# Altium schematic symbol library kmilo17pet-Maxim_Sensors.SchLib: 1172 symbols (part 18 of 61)
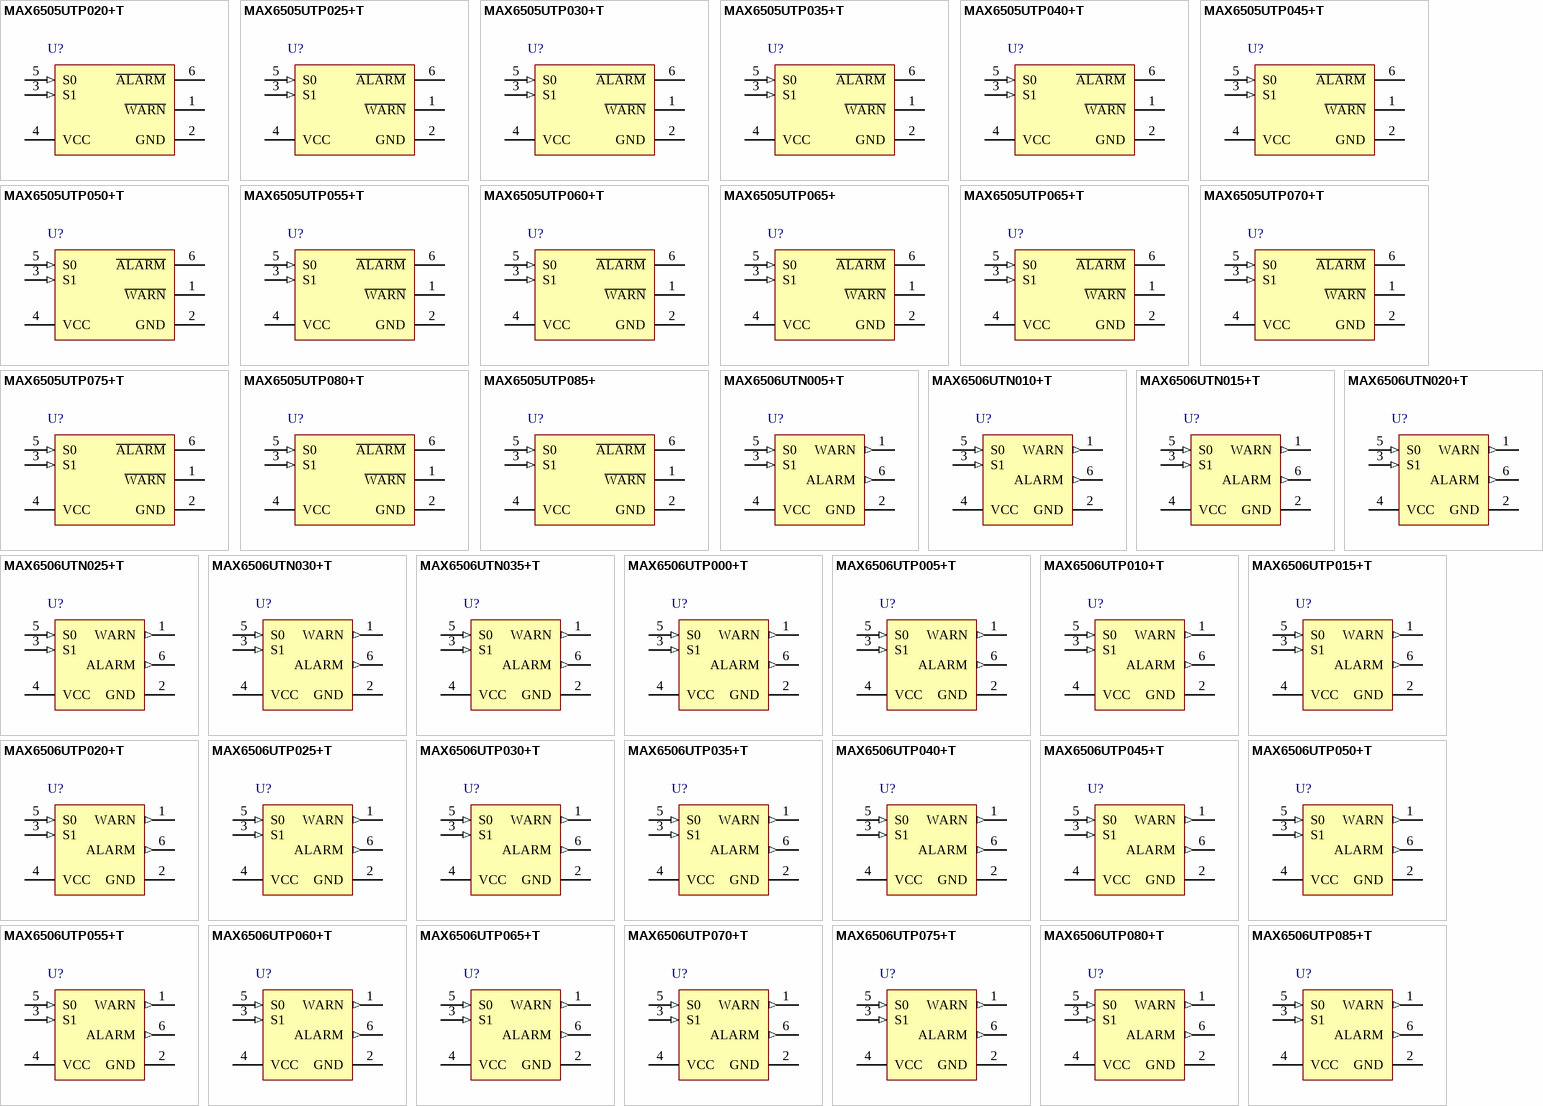
[diagram p50: symbols MAX6505UTP020+T to MAX6506UTP085+T]

## MAX6506UTN005+T
designator U?
Dual Trip Temperature Switch, -40 to 125 degC, 6-Pin SOT23 (U6SN+1), Pb-Free, Tape and Reel; Generic Part Number: MAX6506; PartNumber: MAX6506UTN005+T; Functions: Temperature Switch/Temperature Comparator; Interface: Logic; DatasheetVersion: Rev. 1; PackageVersion: Rev. N, 08/2012; PackageReference: U6SN+1; PackageDescription: 6-Pin Small-Outline Transistor Package, Body 1.625 x 2.9 mm, Pitch 0.95 mm; Packing: Tape and Reel; Mounting Technology: Surface Mount; Code_JEDEC: MO-178; ComponentLink1Description: Manufacturer URL; ComponentLink1URL: http://www.maximintegrated.com/; ComponentLink2Description: Datasheet; ComponentLink2URL: http://datasheets.maximintegrated.com/en/ds/MAX6505-MAX6508.pdf; ComponentLink3Description: Package Specification; ComponentLink3URL: http://pdfserv.maximintegrated.com/package_dwgs/21-0058.PDF
footprint MAXM-U6SN+1_N (SOT23, 6-Leads, Body 2.9x1.625mm, Pitch 0.95mm, IPC Medium Density)
footprint MAXM-U6SN+1_L (SOT23, 6-Leads, Body 2.9x1.625mm, Pitch 0.95mm, IPC High Density)
footprint MAXM-U6SN+1_M (SOT23, 6-Leads, Body 2.9x1.625mm, Pitch 0.95mm, IPC Low Density)
pins: 1 WARN (out) "Push-Pull Active-High Warning Output. WARN goes high when the die temperature exceeds TWARN = TALARM   - delta TAW", 2 GND (power) "Ground", 3 S1 (in) "Delta Temperature Select Input. Connect to VCC or GND to select the difference between TALARM and TWARN (Table 1 or see Electrical Characteristics).", 4 VCC (power) "Supply Voltage Input. Bypass VCC to GND with a 0.1uF ceramic capacitor.", 5 S0 (in) "Delta Temperature Select Input. Connect to VCC or GND to select the difference between TALARM and TWARN (Table 1 or see Electrical Characteristics).", 6 ALARM (out) "Push-Pull Active-High Alarm Output. ALARM goes high when the die temperature exceeds the factory-set value of TALARM"

## MAX6506UTN010+T
designator U?
Dual Trip Temperature Switch, -40 to 125 degC, 6-Pin SOT23 (U6SN+1), Pb-Free, Tape and Reel; Generic Part Number: MAX6506; PartNumber: MAX6506UTN010+T; Functions: Temperature Switch/Temperature Comparator; Interface: Logic; DatasheetVersion: Rev. 1; PackageVersion: Rev. N, 08/2012; PackageReference: U6SN+1; PackageDescription: 6-Pin Small-Outline Transistor Package, Body 1.625 x 2.9 mm, Pitch 0.95 mm; Packing: Tape and Reel; Mounting Technology: Surface Mount; Code_JEDEC: MO-178; ComponentLink1Description: Manufacturer URL; ComponentLink1URL: http://www.maximintegrated.com/; ComponentLink2Description: Datasheet; ComponentLink2URL: http://datasheets.maximintegrated.com/en/ds/MAX6505-MAX6508.pdf; ComponentLink3Description: Package Specification; ComponentLink3URL: http://pdfserv.maximintegrated.com/package_dwgs/21-0058.PDF
footprint MAXM-U6SN+1_N (SOT23, 6-Leads, Body 2.9x1.625mm, Pitch 0.95mm, IPC Medium Density)
footprint MAXM-U6SN+1_L (SOT23, 6-Leads, Body 2.9x1.625mm, Pitch 0.95mm, IPC High Density)
footprint MAXM-U6SN+1_M (SOT23, 6-Leads, Body 2.9x1.625mm, Pitch 0.95mm, IPC Low Density)
pins: 1 WARN (out) "Push-Pull Active-High Warning Output. WARN goes high when the die temperature exceeds TWARN = TALARM   - delta TAW", 2 GND (power) "Ground", 3 S1 (in) "Delta Temperature Select Input. Connect to VCC or GND to select the difference between TALARM and TWARN (Table 1 or see Electrical Characteristics).", 4 VCC (power) "Supply Voltage Input. Bypass VCC to GND with a 0.1uF ceramic capacitor.", 5 S0 (in) "Delta Temperature Select Input. Connect to VCC or GND to select the difference between TALARM and TWARN (Table 1 or see Electrical Characteristics).", 6 ALARM (out) "Push-Pull Active-High Alarm Output. ALARM goes high when the die temperature exceeds the factory-set value of TALARM"

## MAX6506UTN015+T
designator U?
Dual Trip Temperature Switch, -40 to 125 degC, 6-Pin SOT23 (U6SN+1), Pb-Free, Tape and Reel; Generic Part Number: MAX6506; PartNumber: MAX6506UTN015+T; Functions: Temperature Switch/Temperature Comparator; Interface: Logic; DatasheetVersion: Rev. 1; PackageVersion: Rev. N, 08/2012; PackageReference: U6SN+1; PackageDescription: 6-Pin Small-Outline Transistor Package, Body 1.625 x 2.9 mm, Pitch 0.95 mm; Packing: Tape and Reel; Mounting Technology: Surface Mount; Code_JEDEC: MO-178; ComponentLink1Description: Manufacturer URL; ComponentLink1URL: http://www.maximintegrated.com/; ComponentLink2Description: Datasheet; ComponentLink2URL: http://datasheets.maximintegrated.com/en/ds/MAX6505-MAX6508.pdf; ComponentLink3Description: Package Specification; ComponentLink3URL: http://pdfserv.maximintegrated.com/package_dwgs/21-0058.PDF
footprint MAXM-U6SN+1_N (SOT23, 6-Leads, Body 2.9x1.625mm, Pitch 0.95mm, IPC Medium Density)
footprint MAXM-U6SN+1_L (SOT23, 6-Leads, Body 2.9x1.625mm, Pitch 0.95mm, IPC High Density)
footprint MAXM-U6SN+1_M (SOT23, 6-Leads, Body 2.9x1.625mm, Pitch 0.95mm, IPC Low Density)
pins: 1 WARN (out) "Push-Pull Active-High Warning Output. WARN goes high when the die temperature exceeds TWARN = TALARM   - delta TAW", 2 GND (power) "Ground", 3 S1 (in) "Delta Temperature Select Input. Connect to VCC or GND to select the difference between TALARM and TWARN (Table 1 or see Electrical Characteristics).", 4 VCC (power) "Supply Voltage Input. Bypass VCC to GND with a 0.1uF ceramic capacitor.", 5 S0 (in) "Delta Temperature Select Input. Connect to VCC or GND to select the difference between TALARM and TWARN (Table 1 or see Electrical Characteristics).", 6 ALARM (out) "Push-Pull Active-High Alarm Output. ALARM goes high when the die temperature exceeds the factory-set value of TALARM"

## MAX6506UTN020+T
designator U?
Dual Trip Temperature Switch, -40 to 125 degC, 6-Pin SOT23 (U6SN+1), Pb-Free, Tape and Reel; Generic Part Number: MAX6506; PartNumber: MAX6506UTN020+T; Functions: Temperature Switch/Temperature Comparator; Interface: Logic; DatasheetVersion: Rev. 1; PackageVersion: Rev. N, 08/2012; PackageReference: U6SN+1; PackageDescription: 6-Pin Small-Outline Transistor Package, Body 1.625 x 2.9 mm, Pitch 0.95 mm; Packing: Tape and Reel; Mounting Technology: Surface Mount; Code_JEDEC: MO-178; ComponentLink1Description: Manufacturer URL; ComponentLink1URL: http://www.maximintegrated.com/; ComponentLink2Description: Datasheet; ComponentLink2URL: http://datasheets.maximintegrated.com/en/ds/MAX6505-MAX6508.pdf; ComponentLink3Description: Package Specification; ComponentLink3URL: http://pdfserv.maximintegrated.com/package_dwgs/21-0058.PDF
footprint MAXM-U6SN+1_N (SOT23, 6-Leads, Body 2.9x1.625mm, Pitch 0.95mm, IPC Medium Density)
footprint MAXM-U6SN+1_L (SOT23, 6-Leads, Body 2.9x1.625mm, Pitch 0.95mm, IPC High Density)
footprint MAXM-U6SN+1_M (SOT23, 6-Leads, Body 2.9x1.625mm, Pitch 0.95mm, IPC Low Density)
pins: 1 WARN (out) "Push-Pull Active-High Warning Output. WARN goes high when the die temperature exceeds TWARN = TALARM   - delta TAW", 2 GND (power) "Ground", 3 S1 (in) "Delta Temperature Select Input. Connect to VCC or GND to select the difference between TALARM and TWARN (Table 1 or see Electrical Characteristics).", 4 VCC (power) "Supply Voltage Input. Bypass VCC to GND with a 0.1uF ceramic capacitor.", 5 S0 (in) "Delta Temperature Select Input. Connect to VCC or GND to select the difference between TALARM and TWARN (Table 1 or see Electrical Characteristics).", 6 ALARM (out) "Push-Pull Active-High Alarm Output. ALARM goes high when the die temperature exceeds the factory-set value of TALARM"

## MAX6506UTN025+T
designator U?
Dual Trip Temperature Switch, -40 to 125 degC, 6-Pin SOT23 (U6SN+1), Pb-Free, Tape and Reel; Generic Part Number: MAX6506; PartNumber: MAX6506UTN025+T; Functions: Temperature Switch/Temperature Comparator; Interface: Logic; DatasheetVersion: Rev. 1; PackageVersion: Rev. N, 08/2012; PackageReference: U6SN+1; PackageDescription: 6-Pin Small-Outline Transistor Package, Body 1.625 x 2.9 mm, Pitch 0.95 mm; Packing: Tape and Reel; Mounting Technology: Surface Mount; Code_JEDEC: MO-178; ComponentLink1Description: Manufacturer URL; ComponentLink1URL: http://www.maximintegrated.com/; ComponentLink2Description: Datasheet; ComponentLink2URL: http://datasheets.maximintegrated.com/en/ds/MAX6505-MAX6508.pdf; ComponentLink3Description: Package Specification; ComponentLink3URL: http://pdfserv.maximintegrated.com/package_dwgs/21-0058.PDF
footprint MAXM-U6SN+1_N (SOT23, 6-Leads, Body 2.9x1.625mm, Pitch 0.95mm, IPC Medium Density)
footprint MAXM-U6SN+1_L (SOT23, 6-Leads, Body 2.9x1.625mm, Pitch 0.95mm, IPC High Density)
footprint MAXM-U6SN+1_M (SOT23, 6-Leads, Body 2.9x1.625mm, Pitch 0.95mm, IPC Low Density)
pins: 1 WARN (out) "Push-Pull Active-High Warning Output. WARN goes high when the die temperature exceeds TWARN = TALARM   - delta TAW", 2 GND (power) "Ground", 3 S1 (in) "Delta Temperature Select Input. Connect to VCC or GND to select the difference between TALARM and TWARN (Table 1 or see Electrical Characteristics).", 4 VCC (power) "Supply Voltage Input. Bypass VCC to GND with a 0.1uF ceramic capacitor.", 5 S0 (in) "Delta Temperature Select Input. Connect to VCC or GND to select the difference between TALARM and TWARN (Table 1 or see Electrical Characteristics).", 6 ALARM (out) "Push-Pull Active-High Alarm Output. ALARM goes high when the die temperature exceeds the factory-set value of TALARM"

## MAX6506UTN030+T
designator U?
Dual Trip Temperature Switch, -40 to 125 degC, 6-Pin SOT23 (U6SN+1), Pb-Free, Tape and Reel; Generic Part Number: MAX6506; PartNumber: MAX6506UTN030+T; Functions: Temperature Switch/Temperature Comparator; Interface: Logic; DatasheetVersion: Rev. 1; PackageVersion: Rev. N, 08/2012; PackageReference: U6SN+1; PackageDescription: 6-Pin Small-Outline Transistor Package, Body 1.625 x 2.9 mm, Pitch 0.95 mm; Packing: Tape and Reel; Mounting Technology: Surface Mount; Code_JEDEC: MO-178; ComponentLink1Description: Manufacturer URL; ComponentLink1URL: http://www.maximintegrated.com/; ComponentLink2Description: Datasheet; ComponentLink2URL: http://datasheets.maximintegrated.com/en/ds/MAX6505-MAX6508.pdf; ComponentLink3Description: Package Specification; ComponentLink3URL: http://pdfserv.maximintegrated.com/package_dwgs/21-0058.PDF
footprint MAXM-U6SN+1_N (SOT23, 6-Leads, Body 2.9x1.625mm, Pitch 0.95mm, IPC Medium Density)
footprint MAXM-U6SN+1_L (SOT23, 6-Leads, Body 2.9x1.625mm, Pitch 0.95mm, IPC High Density)
footprint MAXM-U6SN+1_M (SOT23, 6-Leads, Body 2.9x1.625mm, Pitch 0.95mm, IPC Low Density)
pins: 1 WARN (out) "Push-Pull Active-High Warning Output. WARN goes high when the die temperature exceeds TWARN = TALARM   - delta TAW", 2 GND (power) "Ground", 3 S1 (in) "Delta Temperature Select Input. Connect to VCC or GND to select the difference between TALARM and TWARN (Table 1 or see Electrical Characteristics).", 4 VCC (power) "Supply Voltage Input. Bypass VCC to GND with a 0.1uF ceramic capacitor.", 5 S0 (in) "Delta Temperature Select Input. Connect to VCC or GND to select the difference between TALARM and TWARN (Table 1 or see Electrical Characteristics).", 6 ALARM (out) "Push-Pull Active-High Alarm Output. ALARM goes high when the die temperature exceeds the factory-set value of TALARM"

## MAX6506UTN035+T
designator U?
Dual Trip Temperature Switch, -40 to 125 degC, 6-Pin SOT23 (U6SN+1), Pb-Free, Tape and Reel; Generic Part Number: MAX6506; PartNumber: MAX6506UTN035+T; Functions: Temperature Switch/Temperature Comparator; Interface: Logic; DatasheetVersion: Rev. 1; PackageVersion: Rev. N, 08/2012; PackageReference: U6SN+1; PackageDescription: 6-Pin Small-Outline Transistor Package, Body 1.625 x 2.9 mm, Pitch 0.95 mm; Packing: Tape and Reel; Mounting Technology: Surface Mount; Code_JEDEC: MO-178; ComponentLink1Description: Manufacturer URL; ComponentLink1URL: http://www.maximintegrated.com/; ComponentLink2Description: Datasheet; ComponentLink2URL: http://datasheets.maximintegrated.com/en/ds/MAX6505-MAX6508.pdf; ComponentLink3Description: Package Specification; ComponentLink3URL: http://pdfserv.maximintegrated.com/package_dwgs/21-0058.PDF
footprint MAXM-U6SN+1_N (SOT23, 6-Leads, Body 2.9x1.625mm, Pitch 0.95mm, IPC Medium Density)
footprint MAXM-U6SN+1_L (SOT23, 6-Leads, Body 2.9x1.625mm, Pitch 0.95mm, IPC High Density)
footprint MAXM-U6SN+1_M (SOT23, 6-Leads, Body 2.9x1.625mm, Pitch 0.95mm, IPC Low Density)
pins: 1 WARN (out) "Push-Pull Active-High Warning Output. WARN goes high when the die temperature exceeds TWARN = TALARM   - delta TAW", 2 GND (power) "Ground", 3 S1 (in) "Delta Temperature Select Input. Connect to VCC or GND to select the difference between TALARM and TWARN (Table 1 or see Electrical Characteristics).", 4 VCC (power) "Supply Voltage Input. Bypass VCC to GND with a 0.1uF ceramic capacitor.", 5 S0 (in) "Delta Temperature Select Input. Connect to VCC or GND to select the difference between TALARM and TWARN (Table 1 or see Electrical Characteristics).", 6 ALARM (out) "Push-Pull Active-High Alarm Output. ALARM goes high when the die temperature exceeds the factory-set value of TALARM"

## MAX6506UTP000+T
designator U?
Dual Trip Temperature Switch, -40 to 125 degC, 6-Pin SOT23 (U6SN+1), Pb-Free, Tape and Reel; Generic Part Number: MAX6506; PartNumber: MAX6506UTP000+T; Functions: Temperature Switch/Temperature Comparator; Interface: Logic; DatasheetVersion: Rev. 1; PackageVersion: Rev. N, 08/2012; PackageReference: U6SN+1; PackageDescription: 6-Pin Small-Outline Transistor Package, Body 1.625 x 2.9 mm, Pitch 0.95 mm; Packing: Tape and Reel; Mounting Technology: Surface Mount; Code_JEDEC: MO-178; ComponentLink1Description: Manufacturer URL; ComponentLink1URL: http://www.maximintegrated.com/; ComponentLink2Description: Datasheet; ComponentLink2URL: http://datasheets.maximintegrated.com/en/ds/MAX6505-MAX6508.pdf; ComponentLink3Description: Package Specification; ComponentLink3URL: http://pdfserv.maximintegrated.com/package_dwgs/21-0058.PDF
footprint MAXM-U6SN+1_N (SOT23, 6-Leads, Body 2.9x1.625mm, Pitch 0.95mm, IPC Medium Density)
footprint MAXM-U6SN+1_L (SOT23, 6-Leads, Body 2.9x1.625mm, Pitch 0.95mm, IPC High Density)
footprint MAXM-U6SN+1_M (SOT23, 6-Leads, Body 2.9x1.625mm, Pitch 0.95mm, IPC Low Density)
pins: 1 WARN (out) "Push-Pull Active-High Warning Output. WARN goes high when the die temperature exceeds TWARN = TALARM   - delta TAW", 2 GND (power) "Ground", 3 S1 (in) "Delta Temperature Select Input. Connect to VCC or GND to select the difference between TALARM and TWARN (Table 1 or see Electrical Characteristics).", 4 VCC (power) "Supply Voltage Input. Bypass VCC to GND with a 0.1uF ceramic capacitor.", 5 S0 (in) "Delta Temperature Select Input. Connect to VCC or GND to select the difference between TALARM and TWARN (Table 1 or see Electrical Characteristics).", 6 ALARM (out) "Push-Pull Active-High Alarm Output. ALARM goes high when the die temperature exceeds the factory-set value of TALARM"

## MAX6506UTP005+T
designator U?
Dual Trip Temperature Switch, -40 to 125 degC, 6-Pin SOT23 (U6SN+1), Pb-Free, Tape and Reel; Generic Part Number: MAX6506; PartNumber: MAX6506UTP005+T; Functions: Temperature Switch/Temperature Comparator; Interface: Logic; DatasheetVersion: Rev. 1; PackageVersion: Rev. N, 08/2012; PackageReference: U6SN+1; PackageDescription: 6-Pin Small-Outline Transistor Package, Body 1.625 x 2.9 mm, Pitch 0.95 mm; Supplier 1: Mouser; Supplier Part Number 1: N/A; Packing: Tape and Reel; Mounting Technology: Surface Mount; Code_JEDEC: MO-178; ComponentLink1Description: Manufacturer URL; ComponentLink1URL: http://www.maximintegrated.com/; ComponentLink2Description: Datasheet; ComponentLink2URL: http://datasheets.maximintegrated.com/en/ds/MAX6505-MAX6508.pdf; ComponentLink3Description: Package Specification; ComponentLink3URL: http://pdfserv.maximintegrated.com/package_dwgs/21-0058.PDF
footprint MAXM-U6SN+1_N (SOT23, 6-Leads, Body 2.9x1.625mm, Pitch 0.95mm, IPC Medium Density)
footprint MAXM-U6SN+1_L (SOT23, 6-Leads, Body 2.9x1.625mm, Pitch 0.95mm, IPC High Density)
footprint MAXM-U6SN+1_M (SOT23, 6-Leads, Body 2.9x1.625mm, Pitch 0.95mm, IPC Low Density)
pins: 1 WARN (out) "Push-Pull Active-High Warning Output. WARN goes high when the die temperature exceeds TWARN = TALARM   - delta TAW", 2 GND (power) "Ground", 3 S1 (in) "Delta Temperature Select Input. Connect to VCC or GND to select the difference between TALARM and TWARN (Table 1 or see Electrical Characteristics).", 4 VCC (power) "Supply Voltage Input. Bypass VCC to GND with a 0.1uF ceramic capacitor.", 5 S0 (in) "Delta Temperature Select Input. Connect to VCC or GND to select the difference between TALARM and TWARN (Table 1 or see Electrical Characteristics).", 6 ALARM (out) "Push-Pull Active-High Alarm Output. ALARM goes high when the die temperature exceeds the factory-set value of TALARM"

## MAX6506UTP010+T
designator U?
Dual Trip Temperature Switch, -40 to 125 degC, 6-Pin SOT23 (U6SN+1), Pb-Free, Tape and Reel; Generic Part Number: MAX6506; PartNumber: MAX6506UTP010+T; Functions: Temperature Switch/Temperature Comparator; Interface: Logic; DatasheetVersion: Rev. 1; PackageVersion: Rev. N, 08/2012; PackageReference: U6SN+1; PackageDescription: 6-Pin Small-Outline Transistor Package, Body 1.625 x 2.9 mm, Pitch 0.95 mm; Packing: Tape and Reel; Mounting Technology: Surface Mount; Code_JEDEC: MO-178; ComponentLink1Description: Manufacturer URL; ComponentLink1URL: http://www.maximintegrated.com/; ComponentLink2Description: Datasheet; ComponentLink2URL: http://datasheets.maximintegrated.com/en/ds/MAX6505-MAX6508.pdf; ComponentLink3Description: Package Specification; ComponentLink3URL: http://pdfserv.maximintegrated.com/package_dwgs/21-0058.PDF
footprint MAXM-U6SN+1_N (SOT23, 6-Leads, Body 2.9x1.625mm, Pitch 0.95mm, IPC Medium Density)
footprint MAXM-U6SN+1_L (SOT23, 6-Leads, Body 2.9x1.625mm, Pitch 0.95mm, IPC High Density)
footprint MAXM-U6SN+1_M (SOT23, 6-Leads, Body 2.9x1.625mm, Pitch 0.95mm, IPC Low Density)
pins: 1 WARN (out) "Push-Pull Active-High Warning Output. WARN goes high when the die temperature exceeds TWARN = TALARM   - delta TAW", 2 GND (power) "Ground", 3 S1 (in) "Delta Temperature Select Input. Connect to VCC or GND to select the difference between TALARM and TWARN (Table 1 or see Electrical Characteristics).", 4 VCC (power) "Supply Voltage Input. Bypass VCC to GND with a 0.1uF ceramic capacitor.", 5 S0 (in) "Delta Temperature Select Input. Connect to VCC or GND to select the difference between TALARM and TWARN (Table 1 or see Electrical Characteristics).", 6 ALARM (out) "Push-Pull Active-High Alarm Output. ALARM goes high when the die temperature exceeds the factory-set value of TALARM"

## MAX6506UTP015+T
designator U?
Dual Trip Temperature Switch, -40 to 125 degC, 6-Pin SOT23 (U6SN+1), Pb-Free, Tape and Reel; Generic Part Number: MAX6506; PartNumber: MAX6506UTP015+T; Functions: Temperature Switch/Temperature Comparator; Interface: Logic; DatasheetVersion: Rev. 1; PackageVersion: Rev. N, 08/2012; PackageReference: U6SN+1; PackageDescription: 6-Pin Small-Outline Transistor Package, Body 1.625 x 2.9 mm, Pitch 0.95 mm; Packing: Tape and Reel; Mounting Technology: Surface Mount; Code_JEDEC: MO-178; ComponentLink1Description: Manufacturer URL; ComponentLink1URL: http://www.maximintegrated.com/; ComponentLink2Description: Datasheet; ComponentLink2URL: http://datasheets.maximintegrated.com/en/ds/MAX6505-MAX6508.pdf; ComponentLink3Description: Package Specification; ComponentLink3URL: http://pdfserv.maximintegrated.com/package_dwgs/21-0058.PDF
footprint MAXM-U6SN+1_N (SOT23, 6-Leads, Body 2.9x1.625mm, Pitch 0.95mm, IPC Medium Density)
footprint MAXM-U6SN+1_L (SOT23, 6-Leads, Body 2.9x1.625mm, Pitch 0.95mm, IPC High Density)
footprint MAXM-U6SN+1_M (SOT23, 6-Leads, Body 2.9x1.625mm, Pitch 0.95mm, IPC Low Density)
pins: 1 WARN (out) "Push-Pull Active-High Warning Output. WARN goes high when the die temperature exceeds TWARN = TALARM   - delta TAW", 2 GND (power) "Ground", 3 S1 (in) "Delta Temperature Select Input. Connect to VCC or GND to select the difference between TALARM and TWARN (Table 1 or see Electrical Characteristics).", 4 VCC (power) "Supply Voltage Input. Bypass VCC to GND with a 0.1uF ceramic capacitor.", 5 S0 (in) "Delta Temperature Select Input. Connect to VCC or GND to select the difference between TALARM and TWARN (Table 1 or see Electrical Characteristics).", 6 ALARM (out) "Push-Pull Active-High Alarm Output. ALARM goes high when the die temperature exceeds the factory-set value of TALARM"

## MAX6506UTP020+T
designator U?
Dual Trip Temperature Switch, -40 to 125 degC, 6-Pin SOT23 (U6SN+1), Pb-Free, Tape and Reel; Generic Part Number: MAX6506; PartNumber: MAX6506UTP020+T; Functions: Temperature Switch/Temperature Comparator; Interface: Logic; DatasheetVersion: Rev. 1; PackageVersion: Rev. N, 08/2012; PackageReference: U6SN+1; PackageDescription: 6-Pin Small-Outline Transistor Package, Body 1.625 x 2.9 mm, Pitch 0.95 mm; Packing: Tape and Reel; Mounting Technology: Surface Mount; Code_JEDEC: MO-178; ComponentLink1Description: Manufacturer URL; ComponentLink1URL: http://www.maximintegrated.com/; ComponentLink2Description: Datasheet; ComponentLink2URL: http://datasheets.maximintegrated.com/en/ds/MAX6505-MAX6508.pdf; ComponentLink3Description: Package Specification; ComponentLink3URL: http://pdfserv.maximintegrated.com/package_dwgs/21-0058.PDF
footprint MAXM-U6SN+1_N (SOT23, 6-Leads, Body 2.9x1.625mm, Pitch 0.95mm, IPC Medium Density)
footprint MAXM-U6SN+1_L (SOT23, 6-Leads, Body 2.9x1.625mm, Pitch 0.95mm, IPC High Density)
footprint MAXM-U6SN+1_M (SOT23, 6-Leads, Body 2.9x1.625mm, Pitch 0.95mm, IPC Low Density)
pins: 1 WARN (out) "Push-Pull Active-High Warning Output. WARN goes high when the die temperature exceeds TWARN = TALARM   - delta TAW", 2 GND (power) "Ground", 3 S1 (in) "Delta Temperature Select Input. Connect to VCC or GND to select the difference between TALARM and TWARN (Table 1 or see Electrical Characteristics).", 4 VCC (power) "Supply Voltage Input. Bypass VCC to GND with a 0.1uF ceramic capacitor.", 5 S0 (in) "Delta Temperature Select Input. Connect to VCC or GND to select the difference between TALARM and TWARN (Table 1 or see Electrical Characteristics).", 6 ALARM (out) "Push-Pull Active-High Alarm Output. ALARM goes high when the die temperature exceeds the factory-set value of TALARM"

## MAX6506UTP025+T
designator U?
Dual Trip Temperature Switch, -40 to 125 degC, 6-Pin SOT23 (U6SN+1), Pb-Free, Tape and Reel; Generic Part Number: MAX6506; PartNumber: MAX6506UTP025+T; Functions: Temperature Switch/Temperature Comparator; Interface: Logic; DatasheetVersion: Rev. 1; PackageVersion: Rev. N, 08/2012; PackageReference: U6SN+1; PackageDescription: 6-Pin Small-Outline Transistor Package, Body 1.625 x 2.9 mm, Pitch 0.95 mm; Packing: Tape and Reel; Mounting Technology: Surface Mount; Code_JEDEC: MO-178; ComponentLink1Description: Manufacturer URL; ComponentLink1URL: http://www.maximintegrated.com/; ComponentLink2Description: Datasheet; ComponentLink2URL: http://datasheets.maximintegrated.com/en/ds/MAX6505-MAX6508.pdf; ComponentLink3Description: Package Specification; ComponentLink3URL: http://pdfserv.maximintegrated.com/package_dwgs/21-0058.PDF
footprint MAXM-U6SN+1_N (SOT23, 6-Leads, Body 2.9x1.625mm, Pitch 0.95mm, IPC Medium Density)
footprint MAXM-U6SN+1_L (SOT23, 6-Leads, Body 2.9x1.625mm, Pitch 0.95mm, IPC High Density)
footprint MAXM-U6SN+1_M (SOT23, 6-Leads, Body 2.9x1.625mm, Pitch 0.95mm, IPC Low Density)
pins: 1 WARN (out) "Push-Pull Active-High Warning Output. WARN goes high when the die temperature exceeds TWARN = TALARM   - delta TAW", 2 GND (power) "Ground", 3 S1 (in) "Delta Temperature Select Input. Connect to VCC or GND to select the difference between TALARM and TWARN (Table 1 or see Electrical Characteristics).", 4 VCC (power) "Supply Voltage Input. Bypass VCC to GND with a 0.1uF ceramic capacitor.", 5 S0 (in) "Delta Temperature Select Input. Connect to VCC or GND to select the difference between TALARM and TWARN (Table 1 or see Electrical Characteristics).", 6 ALARM (out) "Push-Pull Active-High Alarm Output. ALARM goes high when the die temperature exceeds the factory-set value of TALARM"

## MAX6506UTP030+T
designator U?
Dual Trip Temperature Switch, -40 to 125 degC, 6-Pin SOT23 (U6SN+1), Pb-Free, Tape and Reel; Generic Part Number: MAX6506; PartNumber: MAX6506UTP030+T; Functions: Temperature Switch/Temperature Comparator; Interface: Logic; DatasheetVersion: Rev. 1; PackageVersion: Rev. N, 08/2012; PackageReference: U6SN+1; PackageDescription: 6-Pin Small-Outline Transistor Package, Body 1.625 x 2.9 mm, Pitch 0.95 mm; Packing: Tape and Reel; Mounting Technology: Surface Mount; Code_JEDEC: MO-178; ComponentLink1Description: Manufacturer URL; ComponentLink1URL: http://www.maximintegrated.com/; ComponentLink2Description: Datasheet; ComponentLink2URL: http://datasheets.maximintegrated.com/en/ds/MAX6505-MAX6508.pdf; ComponentLink3Description: Package Specification; ComponentLink3URL: http://pdfserv.maximintegrated.com/package_dwgs/21-0058.PDF
footprint MAXM-U6SN+1_N (SOT23, 6-Leads, Body 2.9x1.625mm, Pitch 0.95mm, IPC Medium Density)
footprint MAXM-U6SN+1_L (SOT23, 6-Leads, Body 2.9x1.625mm, Pitch 0.95mm, IPC High Density)
footprint MAXM-U6SN+1_M (SOT23, 6-Leads, Body 2.9x1.625mm, Pitch 0.95mm, IPC Low Density)
pins: 1 WARN (out) "Push-Pull Active-High Warning Output. WARN goes high when the die temperature exceeds TWARN = TALARM   - delta TAW", 2 GND (power) "Ground", 3 S1 (in) "Delta Temperature Select Input. Connect to VCC or GND to select the difference between TALARM and TWARN (Table 1 or see Electrical Characteristics).", 4 VCC (power) "Supply Voltage Input. Bypass VCC to GND with a 0.1uF ceramic capacitor.", 5 S0 (in) "Delta Temperature Select Input. Connect to VCC or GND to select the difference between TALARM and TWARN (Table 1 or see Electrical Characteristics).", 6 ALARM (out) "Push-Pull Active-High Alarm Output. ALARM goes high when the die temperature exceeds the factory-set value of TALARM"

## MAX6506UTP035+T
designator U?
Dual Trip Temperature Switch, -40 to 125 degC, 6-Pin SOT23 (U6SN+1), Pb-Free, Tape and Reel; Generic Part Number: MAX6506; PartNumber: MAX6506UTP035+T; Functions: Temperature Switch/Temperature Comparator; Interface: Logic; DatasheetVersion: Rev. 1; PackageVersion: Rev. N, 08/2012; PackageReference: U6SN+1; PackageDescription: 6-Pin Small-Outline Transistor Package, Body 1.625 x 2.9 mm, Pitch 0.95 mm; Packing: Tape and Reel; Mounting Technology: Surface Mount; Code_JEDEC: MO-178; ComponentLink1Description: Manufacturer URL; ComponentLink1URL: http://www.maximintegrated.com/; ComponentLink2Description: Datasheet; ComponentLink2URL: http://datasheets.maximintegrated.com/en/ds/MAX6505-MAX6508.pdf; ComponentLink3Description: Package Specification; ComponentLink3URL: http://pdfserv.maximintegrated.com/package_dwgs/21-0058.PDF
footprint MAXM-U6SN+1_N (SOT23, 6-Leads, Body 2.9x1.625mm, Pitch 0.95mm, IPC Medium Density)
footprint MAXM-U6SN+1_L (SOT23, 6-Leads, Body 2.9x1.625mm, Pitch 0.95mm, IPC High Density)
footprint MAXM-U6SN+1_M (SOT23, 6-Leads, Body 2.9x1.625mm, Pitch 0.95mm, IPC Low Density)
pins: 1 WARN (out) "Push-Pull Active-High Warning Output. WARN goes high when the die temperature exceeds TWARN = TALARM   - delta TAW", 2 GND (power) "Ground", 3 S1 (in) "Delta Temperature Select Input. Connect to VCC or GND to select the difference between TALARM and TWARN (Table 1 or see Electrical Characteristics).", 4 VCC (power) "Supply Voltage Input. Bypass VCC to GND with a 0.1uF ceramic capacitor.", 5 S0 (in) "Delta Temperature Select Input. Connect to VCC or GND to select the difference between TALARM and TWARN (Table 1 or see Electrical Characteristics).", 6 ALARM (out) "Push-Pull Active-High Alarm Output. ALARM goes high when the die temperature exceeds the factory-set value of TALARM"

## MAX6506UTP040+T
designator U?
Dual Trip Temperature Switch, -40 to 125 degC, 6-Pin SOT23 (U6SN+1), Pb-Free, Tape and Reel; Generic Part Number: MAX6506; PartNumber: MAX6506UTP040+T; Functions: Temperature Switch/Temperature Comparator; Interface: Logic; DatasheetVersion: Rev. 1; PackageVersion: Rev. N, 08/2012; PackageReference: U6SN+1; PackageDescription: 6-Pin Small-Outline Transistor Package, Body 1.625 x 2.9 mm, Pitch 0.95 mm; Packing: Tape and Reel; Mounting Technology: Surface Mount; Code_JEDEC: MO-178; ComponentLink1Description: Manufacturer URL; ComponentLink1URL: http://www.maximintegrated.com/; ComponentLink2Description: Datasheet; ComponentLink2URL: http://datasheets.maximintegrated.com/en/ds/MAX6505-MAX6508.pdf; ComponentLink3Description: Package Specification; ComponentLink3URL: http://pdfserv.maximintegrated.com/package_dwgs/21-0058.PDF
footprint MAXM-U6SN+1_N (SOT23, 6-Leads, Body 2.9x1.625mm, Pitch 0.95mm, IPC Medium Density)
footprint MAXM-U6SN+1_L (SOT23, 6-Leads, Body 2.9x1.625mm, Pitch 0.95mm, IPC High Density)
footprint MAXM-U6SN+1_M (SOT23, 6-Leads, Body 2.9x1.625mm, Pitch 0.95mm, IPC Low Density)
pins: 1 WARN (out) "Push-Pull Active-High Warning Output. WARN goes high when the die temperature exceeds TWARN = TALARM   - delta TAW", 2 GND (power) "Ground", 3 S1 (in) "Delta Temperature Select Input. Connect to VCC or GND to select the difference between TALARM and TWARN (Table 1 or see Electrical Characteristics).", 4 VCC (power) "Supply Voltage Input. Bypass VCC to GND with a 0.1uF ceramic capacitor.", 5 S0 (in) "Delta Temperature Select Input. Connect to VCC or GND to select the difference between TALARM and TWARN (Table 1 or see Electrical Characteristics).", 6 ALARM (out) "Push-Pull Active-High Alarm Output. ALARM goes high when the die temperature exceeds the factory-set value of TALARM"

## MAX6506UTP045+T
designator U?
Dual Trip Temperature Switch, -40 to 125 degC, 6-Pin SOT23 (U6SN+1), Pb-Free, Tape and Reel; Generic Part Number: MAX6506; PartNumber: MAX6506UTP045+T; Functions: Temperature Switch/Temperature Comparator; Interface: Logic; DatasheetVersion: Rev. 1; PackageVersion: Rev. N, 08/2012; PackageReference: U6SN+1; PackageDescription: 6-Pin Small-Outline Transistor Package, Body 1.625 x 2.9 mm, Pitch 0.95 mm; Packing: Tape and Reel; Mounting Technology: Surface Mount; Code_JEDEC: MO-178; ComponentLink1Description: Manufacturer URL; ComponentLink1URL: http://www.maximintegrated.com/; ComponentLink2Description: Datasheet; ComponentLink2URL: http://datasheets.maximintegrated.com/en/ds/MAX6505-MAX6508.pdf; ComponentLink3Description: Package Specification; ComponentLink3URL: http://pdfserv.maximintegrated.com/package_dwgs/21-0058.PDF
footprint MAXM-U6SN+1_N (SOT23, 6-Leads, Body 2.9x1.625mm, Pitch 0.95mm, IPC Medium Density)
footprint MAXM-U6SN+1_L (SOT23, 6-Leads, Body 2.9x1.625mm, Pitch 0.95mm, IPC High Density)
footprint MAXM-U6SN+1_M (SOT23, 6-Leads, Body 2.9x1.625mm, Pitch 0.95mm, IPC Low Density)
pins: 1 WARN (out) "Push-Pull Active-High Warning Output. WARN goes high when the die temperature exceeds TWARN = TALARM   - delta TAW", 2 GND (power) "Ground", 3 S1 (in) "Delta Temperature Select Input. Connect to VCC or GND to select the difference between TALARM and TWARN (Table 1 or see Electrical Characteristics).", 4 VCC (power) "Supply Voltage Input. Bypass VCC to GND with a 0.1uF ceramic capacitor.", 5 S0 (in) "Delta Temperature Select Input. Connect to VCC or GND to select the difference between TALARM and TWARN (Table 1 or see Electrical Characteristics).", 6 ALARM (out) "Push-Pull Active-High Alarm Output. ALARM goes high when the die temperature exceeds the factory-set value of TALARM"

## MAX6506UTP050+T
designator U?
Dual Trip Temperature Switch, -40 to 125 degC, 6-Pin SOT23 (U6SN+1), Pb-Free, Tape and Reel; Generic Part Number: MAX6506; PartNumber: MAX6506UTP050+T; Functions: Temperature Switch/Temperature Comparator; Interface: Logic; DatasheetVersion: Rev. 1; PackageVersion: Rev. N, 08/2012; PackageReference: U6SN+1; PackageDescription: 6-Pin Small-Outline Transistor Package, Body 1.625 x 2.9 mm, Pitch 0.95 mm; Supplier 1: Digi-Key; Supplier Part Number 1: MAX6506UTP050+T-ND; Supplier 2: Mouser; Supplier Part Number 2: 700-MAX6506UTP050+T; Packing: Tape and Reel; Mounting Technology: Surface Mount; Code_JEDEC: MO-178; ComponentLink1Description: Manufacturer URL; ComponentLink1URL: http://www.maximintegrated.com/; ComponentLink2Description: Datasheet; ComponentLink2URL: http://datasheets.maximintegrated.com/en/ds/MAX6505-MAX6508.pdf; ComponentLink3Description: Package Specification; ComponentLink3URL: http://pdfserv.maximintegrated.com/package_dwgs/21-0058.PDF
footprint MAXM-U6SN+1_N (SOT23, 6-Leads, Body 2.9x1.625mm, Pitch 0.95mm, IPC Medium Density)
footprint MAXM-U6SN+1_L (SOT23, 6-Leads, Body 2.9x1.625mm, Pitch 0.95mm, IPC High Density)
footprint MAXM-U6SN+1_M (SOT23, 6-Leads, Body 2.9x1.625mm, Pitch 0.95mm, IPC Low Density)
pins: 1 WARN (out) "Push-Pull Active-High Warning Output. WARN goes high when the die temperature exceeds TWARN = TALARM   - delta TAW", 2 GND (power) "Ground", 3 S1 (in) "Delta Temperature Select Input. Connect to VCC or GND to select the difference between TALARM and TWARN (Table 1 or see Electrical Characteristics).", 4 VCC (power) "Supply Voltage Input. Bypass VCC to GND with a 0.1uF ceramic capacitor.", 5 S0 (in) "Delta Temperature Select Input. Connect to VCC or GND to select the difference between TALARM and TWARN (Table 1 or see Electrical Characteristics).", 6 ALARM (out) "Push-Pull Active-High Alarm Output. ALARM goes high when the die temperature exceeds the factory-set value of TALARM"

## MAX6506UTP055+T
designator U?
Dual Trip Temperature Switch, -40 to 125 degC, 6-Pin SOT23 (U6SN+1), Pb-Free, Tape and Reel; Generic Part Number: MAX6506; PartNumber: MAX6506UTP055+T; Functions: Temperature Switch/Temperature Comparator; Interface: Logic; DatasheetVersion: Rev. 1; PackageVersion: Rev. N, 08/2012; PackageReference: U6SN+1; PackageDescription: 6-Pin Small-Outline Transistor Package, Body 1.625 x 2.9 mm, Pitch 0.95 mm; Packing: Tape and Reel; Mounting Technology: Surface Mount; Code_JEDEC: MO-178; ComponentLink1Description: Manufacturer URL; ComponentLink1URL: http://www.maximintegrated.com/; ComponentLink2Description: Datasheet; ComponentLink2URL: http://datasheets.maximintegrated.com/en/ds/MAX6505-MAX6508.pdf; ComponentLink3Description: Package Specification; ComponentLink3URL: http://pdfserv.maximintegrated.com/package_dwgs/21-0058.PDF
footprint MAXM-U6SN+1_N (SOT23, 6-Leads, Body 2.9x1.625mm, Pitch 0.95mm, IPC Medium Density)
footprint MAXM-U6SN+1_L (SOT23, 6-Leads, Body 2.9x1.625mm, Pitch 0.95mm, IPC High Density)
footprint MAXM-U6SN+1_M (SOT23, 6-Leads, Body 2.9x1.625mm, Pitch 0.95mm, IPC Low Density)
pins: 1 WARN (out) "Push-Pull Active-High Warning Output. WARN goes high when the die temperature exceeds TWARN = TALARM   - delta TAW", 2 GND (power) "Ground", 3 S1 (in) "Delta Temperature Select Input. Connect to VCC or GND to select the difference between TALARM and TWARN (Table 1 or see Electrical Characteristics).", 4 VCC (power) "Supply Voltage Input. Bypass VCC to GND with a 0.1uF ceramic capacitor.", 5 S0 (in) "Delta Temperature Select Input. Connect to VCC or GND to select the difference between TALARM and TWARN (Table 1 or see Electrical Characteristics).", 6 ALARM (out) "Push-Pull Active-High Alarm Output. ALARM goes high when the die temperature exceeds the factory-set value of TALARM"

## MAX6506UTP060+T
designator U?
Dual Trip Temperature Switch, -40 to 125 degC, 6-Pin SOT23 (U6SN+1), Pb-Free, Tape and Reel; Generic Part Number: MAX6506; PartNumber: MAX6506UTP060+T; Functions: Temperature Switch/Temperature Comparator; Interface: Logic; DatasheetVersion: Rev. 1; PackageVersion: Rev. N, 08/2012; PackageReference: U6SN+1; PackageDescription: 6-Pin Small-Outline Transistor Package, Body 1.625 x 2.9 mm, Pitch 0.95 mm; Packing: Tape and Reel; Mounting Technology: Surface Mount; Code_JEDEC: MO-178; ComponentLink1Description: Manufacturer URL; ComponentLink1URL: http://www.maximintegrated.com/; ComponentLink2Description: Datasheet; ComponentLink2URL: http://datasheets.maximintegrated.com/en/ds/MAX6505-MAX6508.pdf; ComponentLink3Description: Package Specification; ComponentLink3URL: http://pdfserv.maximintegrated.com/package_dwgs/21-0058.PDF
footprint MAXM-U6SN+1_N (SOT23, 6-Leads, Body 2.9x1.625mm, Pitch 0.95mm, IPC Medium Density)
footprint MAXM-U6SN+1_L (SOT23, 6-Leads, Body 2.9x1.625mm, Pitch 0.95mm, IPC High Density)
footprint MAXM-U6SN+1_M (SOT23, 6-Leads, Body 2.9x1.625mm, Pitch 0.95mm, IPC Low Density)
pins: 1 WARN (out) "Push-Pull Active-High Warning Output. WARN goes high when the die temperature exceeds TWARN = TALARM   - delta TAW", 2 GND (power) "Ground", 3 S1 (in) "Delta Temperature Select Input. Connect to VCC or GND to select the difference between TALARM and TWARN (Table 1 or see Electrical Characteristics).", 4 VCC (power) "Supply Voltage Input. Bypass VCC to GND with a 0.1uF ceramic capacitor.", 5 S0 (in) "Delta Temperature Select Input. Connect to VCC or GND to select the difference between TALARM and TWARN (Table 1 or see Electrical Characteristics).", 6 ALARM (out) "Push-Pull Active-High Alarm Output. ALARM goes high when the die temperature exceeds the factory-set value of TALARM"

## MAX6506UTP065+T
designator U?
Dual Trip Temperature Switch, -40 to 125 degC, 6-Pin SOT23 (U6SN+1), Pb-Free, Tape and Reel; Generic Part Number: MAX6506; PartNumber: MAX6506UTP065+T; Functions: Temperature Switch/Temperature Comparator; Interface: Logic; DatasheetVersion: Rev. 1; PackageVersion: Rev. N, 08/2012; PackageReference: U6SN+1; PackageDescription: 6-Pin Small-Outline Transistor Package, Body 1.625 x 2.9 mm, Pitch 0.95 mm; Packing: Tape and Reel; Mounting Technology: Surface Mount; Code_JEDEC: MO-178; ComponentLink1Description: Manufacturer URL; ComponentLink1URL: http://www.maximintegrated.com/; ComponentLink2Description: Datasheet; ComponentLink2URL: http://datasheets.maximintegrated.com/en/ds/MAX6505-MAX6508.pdf; ComponentLink3Description: Package Specification; ComponentLink3URL: http://pdfserv.maximintegrated.com/package_dwgs/21-0058.PDF
footprint MAXM-U6SN+1_N (SOT23, 6-Leads, Body 2.9x1.625mm, Pitch 0.95mm, IPC Medium Density)
footprint MAXM-U6SN+1_L (SOT23, 6-Leads, Body 2.9x1.625mm, Pitch 0.95mm, IPC High Density)
footprint MAXM-U6SN+1_M (SOT23, 6-Leads, Body 2.9x1.625mm, Pitch 0.95mm, IPC Low Density)
pins: 1 WARN (out) "Push-Pull Active-High Warning Output. WARN goes high when the die temperature exceeds TWARN = TALARM   - delta TAW", 2 GND (power) "Ground", 3 S1 (in) "Delta Temperature Select Input. Connect to VCC or GND to select the difference between TALARM and TWARN (Table 1 or see Electrical Characteristics).", 4 VCC (power) "Supply Voltage Input. Bypass VCC to GND with a 0.1uF ceramic capacitor.", 5 S0 (in) "Delta Temperature Select Input. Connect to VCC or GND to select the difference between TALARM and TWARN (Table 1 or see Electrical Characteristics).", 6 ALARM (out) "Push-Pull Active-High Alarm Output. ALARM goes high when the die temperature exceeds the factory-set value of TALARM"

## MAX6506UTP070+T
designator U?
Dual Trip Temperature Switch, -40 to 125 degC, 6-Pin SOT23 (U6SN+1), Pb-Free, Tape and Reel; Generic Part Number: MAX6506; PartNumber: MAX6506UTP070+T; Functions: Temperature Switch/Temperature Comparator; Interface: Logic; DatasheetVersion: Rev. 1; PackageVersion: Rev. N, 08/2012; PackageReference: U6SN+1; PackageDescription: 6-Pin Small-Outline Transistor Package, Body 1.625 x 2.9 mm, Pitch 0.95 mm; Packing: Tape and Reel; Mounting Technology: Surface Mount; Code_JEDEC: MO-178; ComponentLink1Description: Manufacturer URL; ComponentLink1URL: http://www.maximintegrated.com/; ComponentLink2Description: Datasheet; ComponentLink2URL: http://datasheets.maximintegrated.com/en/ds/MAX6505-MAX6508.pdf; ComponentLink3Description: Package Specification; ComponentLink3URL: http://pdfserv.maximintegrated.com/package_dwgs/21-0058.PDF
footprint MAXM-U6SN+1_N (SOT23, 6-Leads, Body 2.9x1.625mm, Pitch 0.95mm, IPC Medium Density)
footprint MAXM-U6SN+1_L (SOT23, 6-Leads, Body 2.9x1.625mm, Pitch 0.95mm, IPC High Density)
footprint MAXM-U6SN+1_M (SOT23, 6-Leads, Body 2.9x1.625mm, Pitch 0.95mm, IPC Low Density)
pins: 1 WARN (out) "Push-Pull Active-High Warning Output. WARN goes high when the die temperature exceeds TWARN = TALARM   - delta TAW", 2 GND (power) "Ground", 3 S1 (in) "Delta Temperature Select Input. Connect to VCC or GND to select the difference between TALARM and TWARN (Table 1 or see Electrical Characteristics).", 4 VCC (power) "Supply Voltage Input. Bypass VCC to GND with a 0.1uF ceramic capacitor.", 5 S0 (in) "Delta Temperature Select Input. Connect to VCC or GND to select the difference between TALARM and TWARN (Table 1 or see Electrical Characteristics).", 6 ALARM (out) "Push-Pull Active-High Alarm Output. ALARM goes high when the die temperature exceeds the factory-set value of TALARM"

## MAX6506UTP075+T
designator U?
Dual Trip Temperature Switch, -40 to 125 degC, 6-Pin SOT23 (U6SN+1), Pb-Free, Tape and Reel; Generic Part Number: MAX6506; PartNumber: MAX6506UTP075+T; Functions: Temperature Switch/Temperature Comparator; Interface: Logic; DatasheetVersion: Rev. 1; PackageVersion: Rev. N, 08/2012; PackageReference: U6SN+1; PackageDescription: 6-Pin Small-Outline Transistor Package, Body 1.625 x 2.9 mm, Pitch 0.95 mm; Packing: Tape and Reel; Mounting Technology: Surface Mount; Code_JEDEC: MO-178; ComponentLink1Description: Manufacturer URL; ComponentLink1URL: http://www.maximintegrated.com/; ComponentLink2Description: Datasheet; ComponentLink2URL: http://datasheets.maximintegrated.com/en/ds/MAX6505-MAX6508.pdf; ComponentLink3Description: Package Specification; ComponentLink3URL: http://pdfserv.maximintegrated.com/package_dwgs/21-0058.PDF
footprint MAXM-U6SN+1_N (SOT23, 6-Leads, Body 2.9x1.625mm, Pitch 0.95mm, IPC Medium Density)
footprint MAXM-U6SN+1_L (SOT23, 6-Leads, Body 2.9x1.625mm, Pitch 0.95mm, IPC High Density)
footprint MAXM-U6SN+1_M (SOT23, 6-Leads, Body 2.9x1.625mm, Pitch 0.95mm, IPC Low Density)
pins: 1 WARN (out) "Push-Pull Active-High Warning Output. WARN goes high when the die temperature exceeds TWARN = TALARM   - delta TAW", 2 GND (power) "Ground", 3 S1 (in) "Delta Temperature Select Input. Connect to VCC or GND to select the difference between TALARM and TWARN (Table 1 or see Electrical Characteristics).", 4 VCC (power) "Supply Voltage Input. Bypass VCC to GND with a 0.1uF ceramic capacitor.", 5 S0 (in) "Delta Temperature Select Input. Connect to VCC or GND to select the difference between TALARM and TWARN (Table 1 or see Electrical Characteristics).", 6 ALARM (out) "Push-Pull Active-High Alarm Output. ALARM goes high when the die temperature exceeds the factory-set value of TALARM"

## MAX6506UTP080+T
designator U?
Dual Trip Temperature Switch, -40 to 125 degC, 6-Pin SOT23 (U6SN+1), Pb-Free, Tape and Reel; Generic Part Number: MAX6506; PartNumber: MAX6506UTP080+T; Functions: Temperature Switch/Temperature Comparator; Interface: Logic; DatasheetVersion: Rev. 1; PackageVersion: Rev. N, 08/2012; PackageReference: U6SN+1; PackageDescription: 6-Pin Small-Outline Transistor Package, Body 1.625 x 2.9 mm, Pitch 0.95 mm; Supplier 1: Digi-Key; Supplier Part Number 1: MAX6506UTP080+T-ND; Supplier 2: Mouser; Supplier Part Number 2: 700-MAX6506UTP080T; Packing: Tape and Reel; Mounting Technology: Surface Mount; Code_JEDEC: MO-178; ComponentLink1Description: Manufacturer URL; ComponentLink1URL: http://www.maximintegrated.com/; ComponentLink2Description: Datasheet; ComponentLink2URL: http://datasheets.maximintegrated.com/en/ds/MAX6505-MAX6508.pdf; ComponentLink3Description: Package Specification; ComponentLink3URL: http://pdfserv.maximintegrated.com/package_dwgs/21-0058.PDF
footprint MAXM-U6SN+1_N (SOT23, 6-Leads, Body 2.9x1.625mm, Pitch 0.95mm, IPC Medium Density)
footprint MAXM-U6SN+1_L (SOT23, 6-Leads, Body 2.9x1.625mm, Pitch 0.95mm, IPC High Density)
footprint MAXM-U6SN+1_M (SOT23, 6-Leads, Body 2.9x1.625mm, Pitch 0.95mm, IPC Low Density)
pins: 1 WARN (out) "Push-Pull Active-High Warning Output. WARN goes high when the die temperature exceeds TWARN = TALARM   - delta TAW", 2 GND (power) "Ground", 3 S1 (in) "Delta Temperature Select Input. Connect to VCC or GND to select the difference between TALARM and TWARN (Table 1 or see Electrical Characteristics).", 4 VCC (power) "Supply Voltage Input. Bypass VCC to GND with a 0.1uF ceramic capacitor.", 5 S0 (in) "Delta Temperature Select Input. Connect to VCC or GND to select the difference between TALARM and TWARN (Table 1 or see Electrical Characteristics).", 6 ALARM (out) "Push-Pull Active-High Alarm Output. ALARM goes high when the die temperature exceeds the factory-set value of TALARM"

## MAX6506UTP085+T
designator U?
Dual Trip Temperature Switch, -40 to 125 degC, 6-Pin SOT23 (U6SN+1), Pb-Free, Tape and Reel; Generic Part Number: MAX6506; PartNumber: MAX6506UTP085+T; Functions: Temperature Switch/Temperature Comparator; Interface: Logic; DatasheetVersion: Rev. 1; PackageVersion: Rev. N, 08/2012; PackageReference: U6SN+1; PackageDescription: 6-Pin Small-Outline Transistor Package, Body 1.625 x 2.9 mm, Pitch 0.95 mm; Packing: Tape and Reel; Mounting Technology: Surface Mount; Code_JEDEC: MO-178; ComponentLink1Description: Manufacturer URL; ComponentLink1URL: http://www.maximintegrated.com/; ComponentLink2Description: Datasheet; ComponentLink2URL: http://datasheets.maximintegrated.com/en/ds/MAX6505-MAX6508.pdf; ComponentLink3Description: Package Specification; ComponentLink3URL: http://pdfserv.maximintegrated.com/package_dwgs/21-0058.PDF
footprint MAXM-U6SN+1_N (SOT23, 6-Leads, Body 2.9x1.625mm, Pitch 0.95mm, IPC Medium Density)
footprint MAXM-U6SN+1_L (SOT23, 6-Leads, Body 2.9x1.625mm, Pitch 0.95mm, IPC High Density)
footprint MAXM-U6SN+1_M (SOT23, 6-Leads, Body 2.9x1.625mm, Pitch 0.95mm, IPC Low Density)
pins: 1 WARN (out) "Push-Pull Active-High Warning Output. WARN goes high when the die temperature exceeds TWARN = TALARM   - delta TAW", 2 GND (power) "Ground", 3 S1 (in) "Delta Temperature Select Input. Connect to VCC or GND to select the difference between TALARM and TWARN (Table 1 or see Electrical Characteristics).", 4 VCC (power) "Supply Voltage Input. Bypass VCC to GND with a 0.1uF ceramic capacitor.", 5 S0 (in) "Delta Temperature Select Input. Connect to VCC or GND to select the difference between TALARM and TWARN (Table 1 or see Electrical Characteristics).", 6 ALARM (out) "Push-Pull Active-High Alarm Output. ALARM goes high when the die temperature exceeds the factory-set value of TALARM"

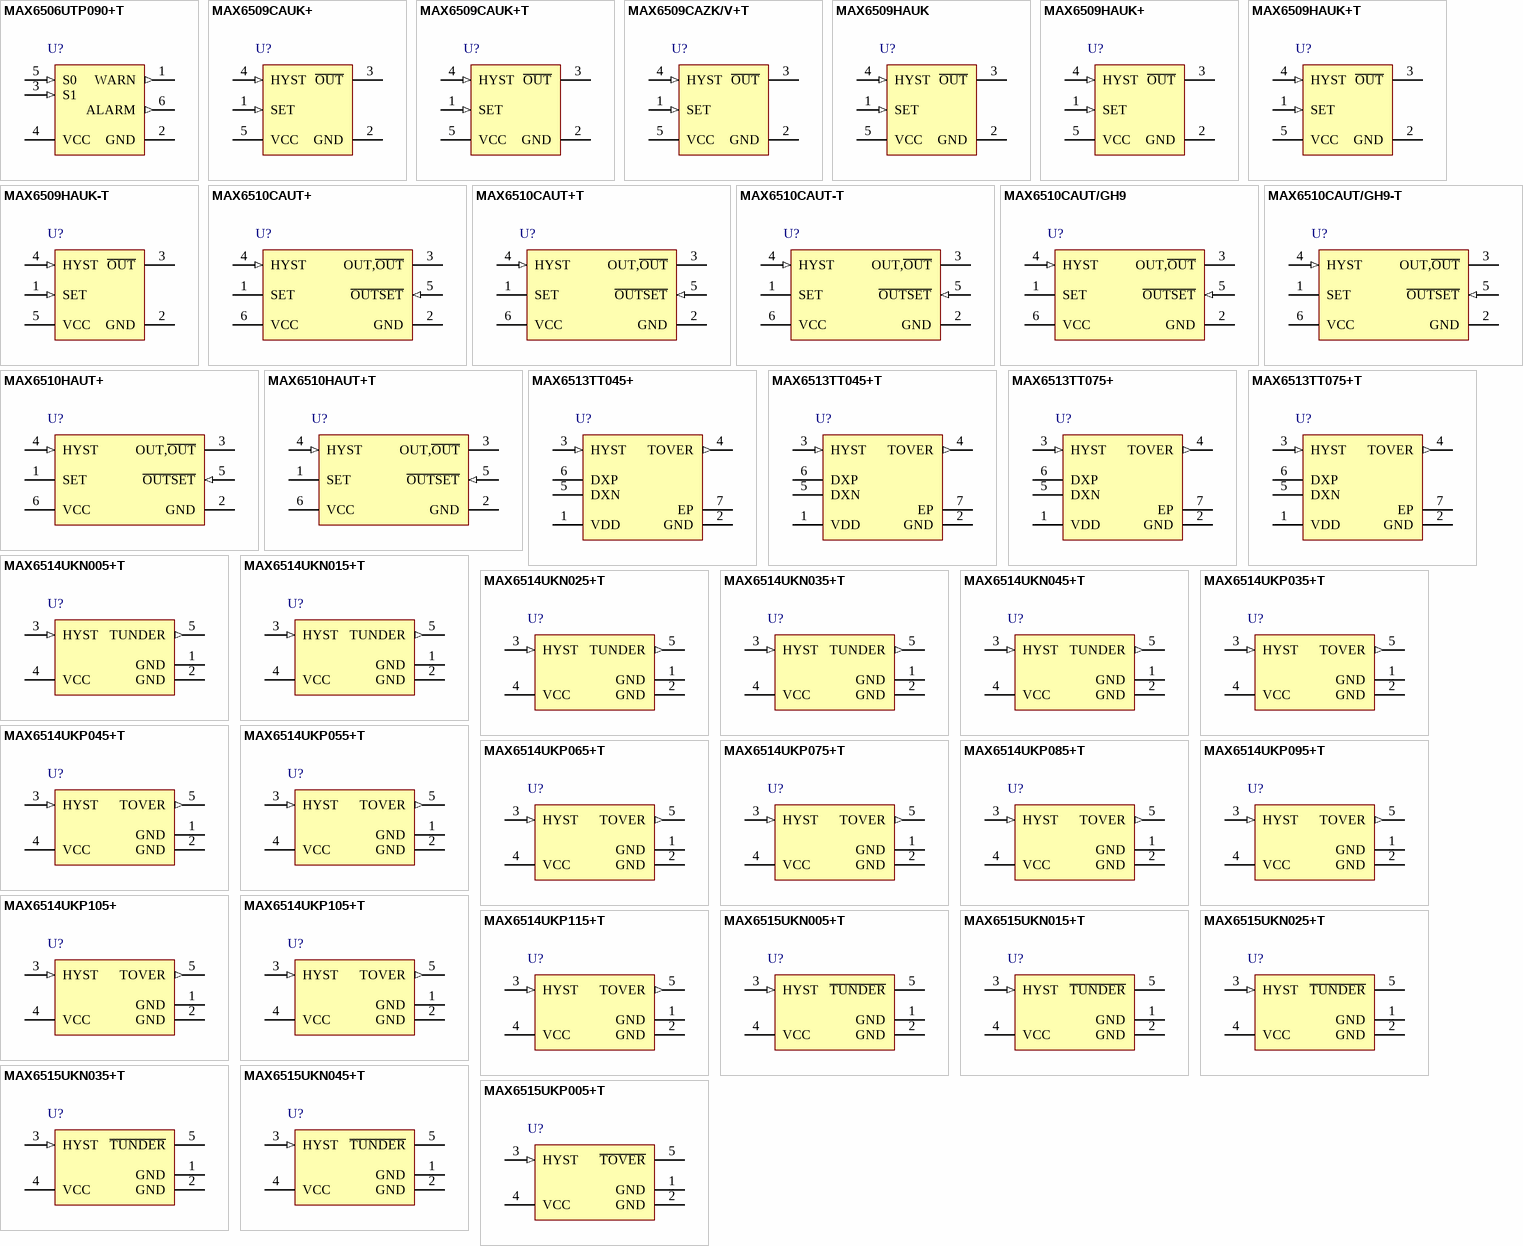
[diagram p11: symbols MAX6506UTP090+T to MAX6515UKP005+T]

## MAX6506UTP090+T
designator U?
Dual Trip Temperature Switch, -40 to 125 degC, 6-Pin SOT23 (U6SN+1), Pb-Free, Tape and Reel; Generic Part Number: MAX6506; PartNumber: MAX6506UTP090+T; Functions: Temperature Switch/Temperature Comparator; Interface: Logic; DatasheetVersion: Rev. 1; PackageVersion: Rev. N, 08/2012; PackageReference: U6SN+1; PackageDescription: 6-Pin Small-Outline Transistor Package, Body 1.625 x 2.9 mm, Pitch 0.95 mm; Packing: Tape and Reel; Mounting Technology: Surface Mount; Code_JEDEC: MO-178; ComponentLink1Description: Manufacturer URL; ComponentLink1URL: http://www.maximintegrated.com/; ComponentLink2Description: Datasheet; ComponentLink2URL: http://datasheets.maximintegrated.com/en/ds/MAX6505-MAX6508.pdf; ComponentLink3Description: Package Specification; ComponentLink3URL: http://pdfserv.maximintegrated.com/package_dwgs/21-0058.PDF
footprint MAXM-U6SN+1_N (SOT23, 6-Leads, Body 2.9x1.625mm, Pitch 0.95mm, IPC Medium Density)
footprint MAXM-U6SN+1_L (SOT23, 6-Leads, Body 2.9x1.625mm, Pitch 0.95mm, IPC High Density)
footprint MAXM-U6SN+1_M (SOT23, 6-Leads, Body 2.9x1.625mm, Pitch 0.95mm, IPC Low Density)
pins: 1 WARN (out) "Push-Pull Active-High Warning Output. WARN goes high when the die temperature exceeds TWARN = TALARM   - delta TAW", 2 GND (power) "Ground", 3 S1 (in) "Delta Temperature Select Input. Connect to VCC or GND to select the difference between TALARM and TWARN (Table 1 or see Electrical Characteristics).", 4 VCC (power) "Supply Voltage Input. Bypass VCC to GND with a 0.1uF ceramic capacitor.", 5 S0 (in) "Delta Temperature Select Input. Connect to VCC or GND to select the difference between TALARM and TWARN (Table 1 or see Electrical Characteristics).", 6 ALARM (out) "Push-Pull Active-High Alarm Output. ALARM goes high when the die temperature exceeds the factory-set value of TALARM"

## MAX6509CAUK+
designator U?
Temperature Switch with Resistor-Programmable Threshold, -40 to 125 degC, 5-Pin SOT23 (U5+1), Pb-Free; Generic Part Number: MAX6509; PartNumber: MAX6509CAUK+; Functions: Temperature Switch/Temperature Comparator; Interface: Logic; DatasheetVersion: Rev. 2; PackageVersion: Rev. G, 04/2011; PackageReference: U5+1; PackageDescription: 5-Pin Small-Outline Transistor Package (U5+1), Body 2.90 x 1.625 mm, Pitch 0.95 mm; Supplier 1: Mouser; Supplier Part Number 1: N/A; Mounting Technology: Surface Mount; Code_JEDEC: MO178; ComponentLink1Description: Manufacturer URL; ComponentLink1URL: http://www.maximintegrated.com/; ComponentLink2Description: Datasheet; ComponentLink2URL: http://datasheets.maximintegrated.com/en/ds/MAX6509; ComponentLink3Description: Package Specification; ComponentLink3URL: http://pdfserv.maximintegrated.com/package_dwgs/21-0057.PDF
footprint MAXM-U5+1_N (SOT23, 5-Leads, Body 2.9x1.625mm, Pitch 0.95mm, IPC Medium Density)
footprint MAXM-U5+1_L (SOT23, 5-Leads, Body 2.9x1.625mm, Pitch 0.95mm, IPC High Density)
footprint MAXM-U5+1_M (SOT23, 5-Leads, Body 2.9x1.625mm, Pitch 0.95mm, IPC Low Density)
pins: 1 SET (in) "Temperature Set Point. Connect an external 1% resistor from SET to GND to set trip point.", 2 GND (power) "Ground", 3 ~{OUT} (hiz) "Open-Drain Output. Reset to high impedance during power-on.", 4 HYST (in) "Hysteresis Selection. Hysteresis is 10 degreesC for HYST = VCC, 2 degreesC for HYST = GND.", 5 VCC (power) "Power-Supply Input"